# EAGLE library part MC33202 (library CECFC)
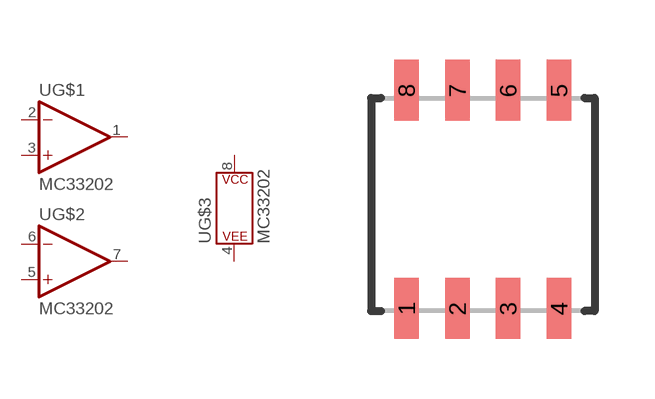
[diagram p0: symbol with the pads of SOIC8; footprint SOIC8]

Designator prefix -; gates G$1=OP-AMP G$2=OP-AMP G$3=POWER_CONSORT

## MC33202DR2G  [SOIC8]
1  G$1:OUT  out
2  G$1:-IN  in
3  G$1:+IN  in
4  G$3:P$V-
5  G$2:+IN  in
6  G$2:-IN  in
7  G$2:OUT  out
8  G$3:P$V+

## Footprint SOIC8 (pad centres in mm)
smd 0.61 x 1.524: 1 -1.905,-2.731; 2 -0.635,-2.731; 3 0.635,-2.731; 4 1.905,-2.731; 5 1.905,2.731; 6 0.635,2.731; 7 -0.635,2.731; 8 -1.905,2.731